# Altium footprint library CUBIC_PCB.PcbLib: 31 footprints (part 2 of 2)
Each footprint in its own frame and in the unit in brackets; x right, y up, seen from the top. Pads: shape width x height; smd on the part's side, far side on the other; paste and mask are expansions set on the pad; w line width, h text height; cw(c..) or ccw(c..) is an arc to the next point about the centre after c.
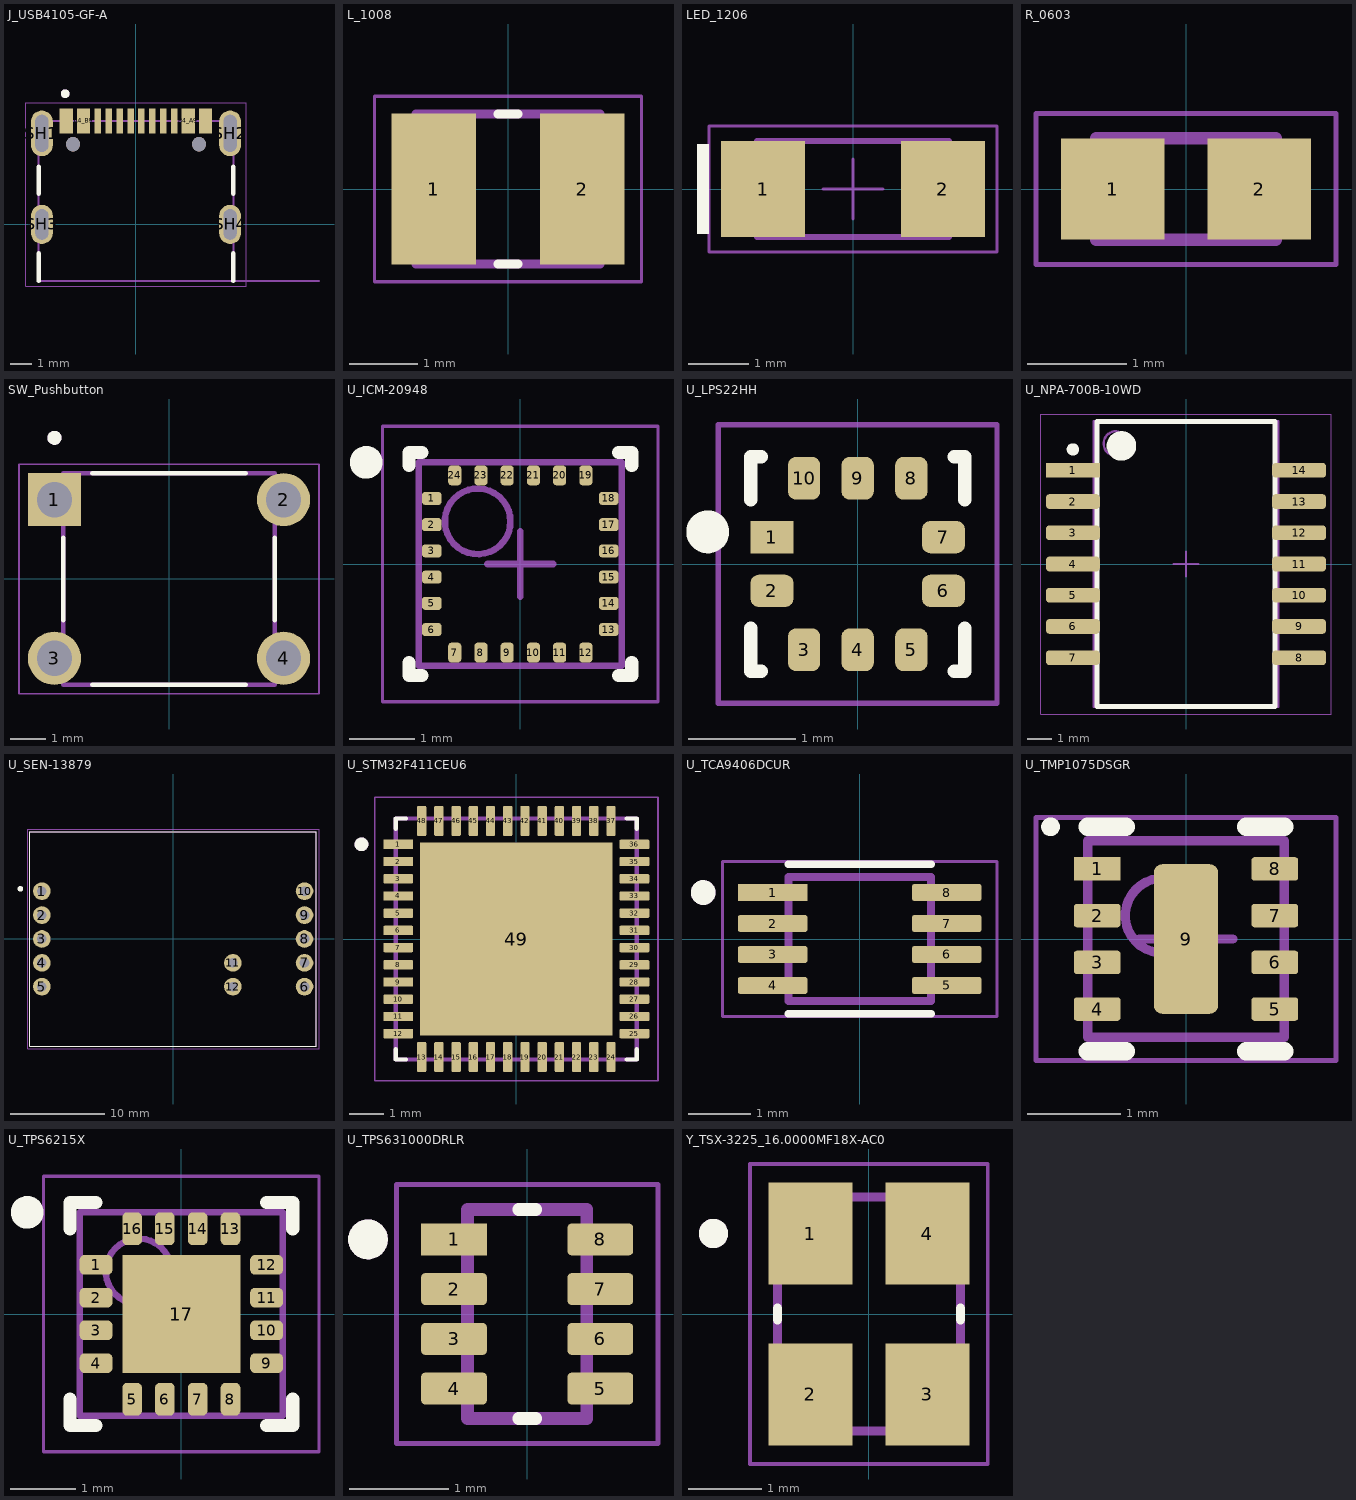
[diagram p1: the footprints below, top view; thin cyan lines are the x and y axes]

## J_USB4105-GF-A [mm]
height 3.31
pads (18):
  rect 0.6x1.15 smd mask+0.05: A1_B12(-3.2,4.755) A4_B9(-2.4,4.755) B1_A12(3.2,4.755) B4_A9(2.4,4.755)
  rect 0.3x1.15 smd mask+0.05: A5(-1.25,4.755) A6(-0.25,4.755) A7(0.25,4.755) A8(1.25,4.755) B5(1.75,4.755) B6(0.75,4.755) B7(-0.75,4.755) B8(-1.75,4.755)
  oval 1x2.1 hole 0.6 slot 1.7 at 90 deg: SH1(-4.32,4.18) SH2(4.32,4.18)
  oval 1x1.8 hole 0.6 slot 1.4 at 90 deg: SH3(-4.32,0) SH4(4.32,0)
  round 0.65 hole 0.65 unplated: ""(-2.89,3.68) ""(2.89,3.68)
Top Overlay:
  circle w0.2: c-3.25,6 r0.1
  lines w0.2: -4.47,-2.6 -4.47,-1.32 ; -4.47,1.4 -4.47,2.65 ; 4.47,-2.6 4.47,-1.32 ; 4.47,1.4 4.47,2.65
Mechanical 13:
  circle w0.2: c-3.25,6 r0.1
  lines w0.1: 8.4,-2.6 4.47,-2.6 ; 4.47,-2.6 4.47,4.75 -4.47,4.75 -4.47,-2.6 4.47,-2.6
  text "PCB EDGE" at 5.4,-2.5 h0.41
Mechanical 15:
  lines w0.05: -5.07,-2.85 -5.07,5.58 5.07,5.58 5.07,-2.85 -5.07,-2.85
3D body "USB4105-GF-A.step": height 3.31, standoff -1.1, extent -4.47,-2.6 4.47,5.11

## L_1008 [mm]
pads (2):
  rect 1.24x2.22 smd: 1(-1.09,0) 2(1.09,0)
Top Overlay:
  lines w0.127: -0.15,-1.1 0.15,-1.1 ; -0.15,1.1 0.15,1.1
Mechanical 13:
  lines w0.127: -1.35,-1.1 -1.35,1.1 1.35,1.1 1.35,-1.1 -1.35,-1.1
Mechanical 15:
  lines w0.05: -1.958,-1.358 -1.958,1.358 1.958,1.358 1.958,-1.358 -1.958,-1.358
3D body "DFE252012P-1R0M_P2.step": height 1.2, standoff 0, extent -1.25,-1 1.25,1

## LED_1206 [mm] "SMD Mono-color Chip LED, body 3.2x1.6mm"
height 0.68
pads (2):
  rect 1.4x1.6 smd: 1(-1.5,0) 2(1.5,0)
Top Overlay:
  rectangle: -2.6,-0.75 -2.4,0.75
Top Component Outline:
  rectangle: -1.6,-0.8 -1.2,0.8
Mechanical 13:
  lines w0.1: -1.6,-0.8 1.6,-0.8 1.6,0.8 -1.6,0.8 -1.6,-0.8
Mechanical 15:
  lines w0.05: -2.4,-1.05 2.4,-1.05 2.4,1.05 -2.4,1.05 -2.4,-1.05
Top Component Center:
  lines w0.05: -0.5,0 0.5,0 ; 0,-0.5 0,0.5
3D body "150120xS75000.stp": height 0.68, standoff 0, extent -1.6,-0.8 1.6,0.8

## R_0603 [mm]
pads (2):
  rect 1.04x1.02 smd: 1(-0.735,0) 2(0.735,0)
Mechanical 13:
  lines w0.127: -0.9,-0.51 -0.9,0.51 0.9,0.51 0.9,-0.51 -0.9,-0.51
Mechanical 15:
  lines w0.05: -1.508,-0.761 -1.508,0.761 1.508,0.761 1.508,-0.761 -1.508,-0.761
3D body "RC0603JR-070RL.step": height 0.55, standoff 0, extent -0.8,-0.4 0.8,0.4

## SW_Pushbutton [mm] "Tactile pushbutton switch, 4-pin, through-hole"
pads (4):
  rect 1.508x1.508 / inner round 1.508 / far side rect 1.508x1.508 hole 1: 1(-3.25,2.25)
  round 1.508 hole 1: 2(3.25,2.25) 3(-3.25,-2.25) 4(3.25,-2.25)
Top Overlay:
  circle w0.2: c-3.25,4.004 r0.1
  lines w0.127: -3,-1.176 -3,1.176 ; -2.176,-3 2.176,-3 ; -2.176,3 2.176,3 ; 3,-1.176 3,1.176
Mechanical 13:
  circle w0.2: c-3.25,4.004 r0.1
  lines w0.127: -3,-3 -3,3 3,3 3,-3 -3,-3
Mechanical 15:
  lines w0.05: -4.254,-3.254 4.254,-3.254 4.254,3.254 -4.254,3.254 -4.254,-3.254

## U_ICM-20948 [mm]
height 1.05
pads (24):
  rrect50% 0.3x0.2 smd mask+0.042: 1(-1.35,1) 2(-1.35,0.6) 3(-1.35,0.2) 4(-1.35,-0.2) 5(-1.35,-0.6) 6(-1.35,-1) 13(1.35,-1) 14(1.35,-0.6) 15(1.35,-0.2) 16(1.35,0.2) 17(1.35,0.6) 18(1.35,1)
  rrect50% 0.2x0.3 smd mask+0.042: 7(-1,-1.35) 8(-0.6,-1.35) 9(-0.2,-1.35) 10(0.2,-1.35) 11(0.6,-1.35) 12(1,-1.35) 19(1,1.35) 20(0.6,1.35) 21(0.2,1.35) 22(-0.2,1.35) 23(-0.6,1.35) 24(-1,1.35)
Top Overlay:
  circle w0.25: c-2.35,1.55 r0.125
  lines w0.2: -1.7,-1.5 -1.7,-1.7 -1.5,-1.7 ; -1.7,1.5 -1.7,1.7 -1.5,1.7 ; 1.5,-1.7 1.7,-1.7 1.7,-1.5 ; 1.5,1.7 1.7,1.7 1.7,1.5
Top Courtyard:
  lines w0.05: -2.1,-2.1 2.1,-2.1 2.1,2.1 -2.1,2.1 -2.1,-2.1
  lines w0.1: -0.5,0 0.5,0 ; 0,-0.5 0,0.5
Mechanical 13:
  circle w0.1: c-0.65,0.65 r0.5
  lines w0.1: -1.55,-1.55 1.55,-1.55 1.55,1.55 -1.55,1.55 -1.55,-1.55
3D body: height 1.05, standoff 0, extent -1.55,-1.55 1.55,1.55

## U_LPS22HH [mm]
pads (10):
  rect 0.4x0.3 smd mask+0.05: 1(-0.8,0.25)
  rrect50% 0.4x0.3 smd mask+0.05: 2(-0.8,-0.25) 6(0.8,-0.25) 7(0.8,0.25)
  rrect50% 0.3x0.4 smd mask+0.05: 3(-0.5,-0.8) 4(0,-0.8) 5(0.5,-0.8) 8(0.5,0.8) 9(0,0.8) 10(-0.5,0.8)
Top Overlay:
  circle w0.2: c-1.4,0.3 r0.1
  lines w0.127: -1,-0.6 -1,-1 -0.9,-1 ; -1,0.6 -1,1 -0.9,1 ; 0.9,-1 1,-1 1,-0.6 ; 0.9,1 1,1 1,0.6
Mechanical 15:
  lines w0.05: -1.3,-1.3 -1.3,1.3 1.3,1.3 1.3,-1.3 -1.3,-1.3
3D body "LPS22HHTR.step": height 0.8, standoff 0, extent -1,-1 1,1

## U_NPA-700B-10WD [mm] "SOIC, 14-Leads, Body 11.36x7.52mm, Pitch 1.27mm, IPC Medium Density"
height 3.3
pads (14):
  rect 2.2x0.6 smd: 1(-4.6,3.81)
  rrect50% 2.2x0.6 smd: 2(-4.6,2.54) 3(-4.6,1.27) 4(-4.6,0) 5(-4.6,-1.27) 6(-4.6,-2.54) 7(-4.6,-3.81) 8(4.6,-3.81) 9(4.6,-2.54) 10(4.6,-1.27) 11(4.6,0) 12(4.6,1.27) 13(4.6,2.54) 14(4.6,3.81)
Top Overlay:
  circle w0.25: c-4.6,4.66 r0.125
  circle w0.6: c-2.625,4.8 r0.3
  lines w0.2: -3.625,-5.8 -3.625,5.8 3.625,5.8 3.625,-5.8 -3.625,-5.8
Top Courtyard:
  lines w0.05: -5.9,-6.1 -5.9,6.1 5.9,6.1 5.9,-6.1 -5.9,-6.1
  lines w0.1: -0.5,0 0.5,0 ; 0,-0.5 0,0.5
Mechanical 13:
  circle w0.1: c-2.85,4.9 r0.5
  lines w0.1: -3.75,-5.8 -3.75,5.8 3.75,5.8 3.75,-5.8 -3.75,-5.8
3D body "U_NPA-700B-10WD.step": height 3.3, standoff 0, extent -5.16,-5.8 5.16,5.8

## U_SEN-13879 [mil]
pads (12):
  round 74 hole 40: 1(-550,200) 2(-550,100) 3(-550,0) 4(-550,-100) 5(-550,-200) 6(550,-200) 7(550,-100) 8(550,0) 9(550,100) 10(550,200) 11(250,-100) 12(250,-200)
Top Overlay:
  circle w11.81: c-640,210 r5.91
  lines w5: -600,-450 -600,450 600,450 600,-450 -600,-450
Mechanical 13:
  lines w5: -600,-450 600,-450 600,450 -600,450 -600,-450
Mechanical 15:
  lines w1.97: -609.84,-459.84 610.63,-459.84 610.63,459.45 -609.84,459.45 -609.84,-459.84
3D body "SEN-13879.step": height 0, standoff -161.42, extent -600,-450 600,450

## U_STM32F411CEU6 [mm] "48-UFQFPN package, including ground pad"
pads (49):
  rect 0.87x0.27 smd mask+0.044: 1(-3.43,2.75)
  rrect25% 0.87x0.27 smd mask+0.044: 2(-3.43,2.25) 3(-3.43,1.75) 4(-3.43,1.25) 5(-3.43,0.75) 6(-3.43,0.25) 7(-3.43,-0.25) 8(-3.43,-0.75) 9(-3.43,-1.25) 10(-3.43,-1.75) 11(-3.43,-2.25) 12(-3.43,-2.75) 25(3.43,-2.75) 26(3.43,-2.25) 27(3.43,-1.75) 28(3.43,-1.25) 29(3.43,-0.75) 30(3.43,-0.25) 31(3.43,0.25) 32(3.43,0.75) 33(3.43,1.25) 34(3.43,1.75) 35(3.43,2.25) 36(3.43,2.75)
  rrect25% 0.27x0.87 smd mask+0.044: 13(-2.75,-3.43) 14(-2.25,-3.43) 15(-1.75,-3.43) 16(-1.25,-3.43) 17(-0.75,-3.43) 18(-0.25,-3.43) 19(0.25,-3.43) 20(0.75,-3.43) 21(1.25,-3.43) 22(1.75,-3.43) 23(2.25,-3.43) 24(2.75,-3.43) 37(2.75,3.43) 38(2.25,3.43) 39(1.75,3.43) 40(1.25,3.43) 41(0.75,3.43) 42(0.25,3.43) 43(-0.25,3.43) 44(-0.75,3.43) 45(-1.25,3.43) 46(-1.75,3.43) 47(-2.25,3.43) 48(-2.75,3.43)
  rect 5.6x5.6 smd paste-4 mask+0.044: 49(0,0)
Top Overlay:
  circle w0.2: c-4.5,2.75 r0.1
  lines w0.127: -3.5,-3.205 -3.5,-3.5 -3.205,-3.5 ; -3.5,3.205 -3.5,3.5 -3.205,3.5 ; 3.205,-3.5 3.5,-3.5 3.5,-3.205 ; 3.205,3.5 3.5,3.5 3.5,3.205
Top Paste:
  region: -0.51,0.51 -2.29,0.51 -2.29,2.29 -0.51,2.29
  region: 2.29,0.51 0.51,0.51 0.51,2.29 2.29,2.29
  region: -0.51,-2.29 -2.29,-2.29 -2.29,-0.51 -0.51,-0.51
  region: 2.29,-2.29 0.51,-2.29 0.51,-0.51 2.29,-0.51
Mechanical 13:
  circle w0.2: c-4.5,2.75 r0.1
  lines w0.127: -3.5,-3.5 3.5,-3.5 3.5,3.5 -3.5,3.5 -3.5,-3.5
Mechanical 15:
  lines w0.05: -4.115,-4.115 4.115,-4.115 4.115,4.115 -4.115,4.115 -4.115,-4.115
3D body "STM32F411CEU6.step": height 0.6, standoff 0, extent -3.5,-3.5 3.5,3.5

## U_TCA9406DCUR [mm]
pads (8):
  rect 1.12x0.27 smd mask+0.076: 1(-1.405,0.75)
  rrect25% 1.12x0.27 smd mask+0.076: 2(-1.405,0.25) 3(-1.405,-0.25) 4(-1.405,-0.75) 5(1.405,-0.75) 6(1.405,-0.25) 7(1.405,0.25) 8(1.405,0.75)
Top Overlay:
  circle w0.2: c-2.525,0.75 r0.1
  lines w0.127: -1.15,-1.205 1.15,-1.205 ; -1.15,1.205 1.15,1.205
Mechanical 13:
  circle w0.2: c-2.525,0.75 r0.1
  lines w0.127: -1.15,-1 1.15,-1 1.15,1 -1.15,1 -1.15,-1
Mechanical 15:
  lines w0.05: -2.215,-1.25 2.215,-1.25 2.215,1.25 -2.215,1.25 -2.215,-1.25
3D body "step_temp.STEP": height 0.9, standoff 0, extent -1.55,-1 1.55,1

## U_TMP1075DSGR [mm] "SON, 8-Leads, Body 2.00x2.00mm, Pitch 0.50mm, Thermal Pad 1.60x0.69mm, IPC Medium Density"
height 0.8
pads (9):
  rect 0.5x0.25 smd mask+0.05: 1(-0.95,0.75)
  rrect25% 0.5x0.25 smd mask+0.05: 2(-0.95,0.25) 3(-0.95,-0.25) 4(-0.95,-0.75) 5(0.95,-0.75) 6(0.95,-0.25) 7(0.95,0.25) 8(0.95,0.75)
  rrect25% 0.69x1.6 smd mask+0.05: 9(0,0)
Top Overlay:
  circle w0.1: c-1.45,1.2 r0.05
  lines w0.2: -1.05,-1.2 -0.645,-1.2 ; -1.05,1.2 -0.645,1.2 ; 0.645,-1.2 1.05,-1.2 ; 0.645,1.2 1.05,1.2
Mechanical 13:
  circle w0.1: c-0.25,0.25 r0.4
  lines w0.1: -1.05,-1.05 1.05,-1.05 1.05,1.05 -1.05,1.05 -1.05,-1.05
Mechanical 15:
  lines w0.05: -1.605,-1.3 1.605,-1.3 1.605,1.3 -1.605,1.3 -1.605,-1.3
  lines w0.1: -0.5,0 0.5,0 ; 0,-0.5 0,0.5
3D body "TMP1075DSGR.step": height -0.39, standoff -1.19, extent -1,-1 1,1

## U_TPS6215X [mm] "QFN, 16-Leads, Body 3.00x3.00mm, Pitch 0.50mm, Thermal Pad 1.80x1.80mm, IPC Medium Density"
height 1
pads (17):
  rrect50% 0.5x0.3 smd mask+0.05: 1(-1.3,0.75) 2(-1.3,0.25) 3(-1.3,-0.25) 4(-1.3,-0.75) 9(1.3,-0.75) 10(1.3,-0.25) 11(1.3,0.25) 12(1.3,0.75)
  rrect50% 0.3x0.5 smd mask+0.05: 5(-0.75,-1.3) 6(-0.25,-1.3) 7(0.25,-1.3) 8(0.75,-1.3) 13(0.75,1.3) 14(0.25,1.3) 15(-0.25,1.3) 16(-0.75,1.3)
  rect 1.8x1.8 smd mask+0.05: 17(0,0)
Top Overlay:
  circle w0.25: c-2.35,1.55 r0.125
  lines w0.2: -1.7,-1.3 -1.7,-1.7 -1.3,-1.7 ; -1.7,1.3 -1.7,1.7 -1.3,1.7 ; 1.3,-1.7 1.7,-1.7 1.7,-1.3 ; 1.3,1.7 1.7,1.7 1.7,1.3
Top Courtyard:
  lines w0.05: -2.1,-2.1 2.1,-2.1 2.1,2.1 -2.1,2.1 -2.1,-2.1
  lines w0.1: -0.5,0 0.5,0 ; 0,-0.5 0,0.5
Mechanical 13:
  circle w0.1: c-0.65,0.65 r0.5
  lines w0.1: -1.55,-1.55 1.55,-1.55 1.55,1.55 -1.55,1.55 -1.55,-1.55
3D body "RGT0016C.stp": height 1, standoff 0, extent -1.5,-1.5 1.5,1.5

## U_TPS631000DRLR [mm]
height 0.6
pads (8):
  rect 0.66x0.32 smd mask+0.04: 1(-0.735,0.75)
  rrect25% 0.66x0.32 smd mask+0.04: 2(-0.735,0.25) 3(-0.735,-0.25) 4(-0.735,-0.75) 5(0.735,-0.75) 6(0.735,-0.25) 7(0.735,0.25) 8(0.735,0.75)
Top Overlay:
  circle w0.2: c-1.6,0.75 r0.1
  lines w0.127: -0.085,-1.05 0.085,-1.05 ; -0.085,1.05 0.085,1.05
Mechanical 13:
  circle w0.2: c-1.6,0.75 r0.1
  lines w0.127: -0.6,-1.05 -0.6,1.05 0.6,1.05 0.6,-1.05 -0.6,-1.05
Mechanical 15:
  lines w0.05: -1.315,-1.3 -1.315,1.3 1.315,1.3 1.315,-1.3 -1.315,-1.3
3D body "step_temp.STEP": height 0.6, standoff 0, extent -0.8,-1.05 0.8,1.05

## Y_TSX-3225_16.0000MF18X-AC0 [mm]
height 0.6
pads (4):
  rect 1.15x1.4 smd: 1(-0.8,1.1) 2(-0.8,-1.1) 3(0.8,-1.1) 4(0.8,1.1)
Top Overlay:
  circle w0.2: c-2.125,1.1 r0.1
  lines w0.127: -1.25,-0.08 -1.25,0.08 ; 1.25,-0.08 1.25,0.08
Mechanical 13:
  circle w0.2: c-2.125,1.1 r0.1
  lines w0.127: -1.25,-1.6 -1.25,1.6 1.25,1.6 1.25,-1.6 -1.25,-1.6
Mechanical 15:
  lines w0.05: -1.625,-2.05 -1.625,2.05 1.625,2.05 1.625,-2.05 -1.625,-2.05
3D body "step_temp.STEP": height 0.6, standoff 0, extent -1.6,-1.25 1.6,1.25